# EAGLE library part PCA9306D (library mine)
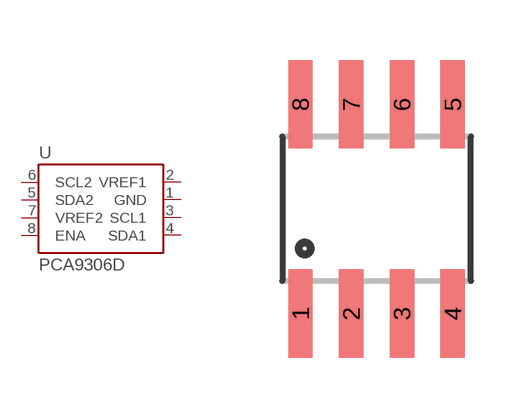
[diagram p1: symbol with the pads of SO08; footprint SO08]

Designator prefix -

## PCA9306D  [SO08]
1  GND
2  VREF1
3  SCL1
4  SDA1
5  SDA2
6  SCL2
7  VREF2
8  ENA

## Footprint SO08 (pad centres in mm)
Small Outline Package Fits JEDEC packages (narrow SOIC-8)
smd 0.61 x 2.21: 1 -1.905,-2.616; 2 -0.635,-2.616; 3 0.635,-2.616; 4 1.905,-2.616; 5 1.905,2.616; 6 0.635,2.616; 7 -0.635,2.616; 8 -1.905,2.616